# Altium integrated library QRE1113GR.IntLib: 1 symbol
Pins are listed as number, name and electrical type; pins without a type are passive.

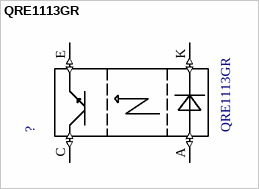
[diagram p0: symbol QRE1113GR]

## QRE1113GR
designator ?
/ QRE1113 Series 30 V 50 mA Miniature Reflective Object Sensor - SMD-4 /; MF: ON Semiconductor; Price: None; MP: QRE1113GR; SnapEDA_Link: https://www.snapeda.com/parts/QRE1113GR/ON%20Semiconductor/view-part/?ref=snap; Package: SMD-4 ON Semiconductor; Availability: Unavailable; Value: *
footprint *4LEADSMD_QRE1113GR(Primary)
pins: A (io), C (io), E (io), K (io)